# Altium schematic symbol library passive.SchLib: 14 symbols
Pins are listed as number, name and electrical type; pins without a type are passive.

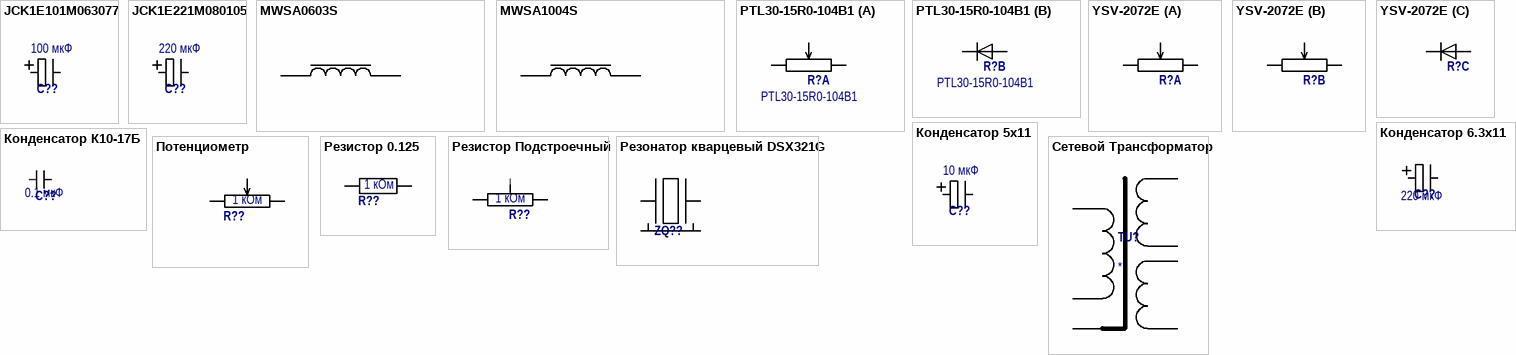
[diagram p0: symbols JCK1E101M063077 to Сетевой Трансформатор]

## JCK1E101M063077
designator C??  value 100 мкФ
Чип конденсатор; name: JCK1E101M063077; dopusk: ±10%; napr: 25 В; d_type: 35; k_type: K50; type: Конденсатор
footprint CAPAE6866X77M (Aluminum Electrolytic Capacitor, Body 6,60x6,60x7,70mm, IPC Low Density)
pins: 1, 2

## JCK1E221M080105
designator C??  value 220 мкФ
Чип конденсатор; name: JCK1E221M080105; dopusk: ±10%; napr: 25 В; d_type: 35; k_type: K50; type: Конденсатор
footprint CAPAE8482X105M (Aluminum Electrolytic Capacitor, Body 8.25x8.25x10.50mm, IPC Low Density)
pins: 1, 2

## MWSA0603S
designator L?
name: MWSA0603S-100MT; planar: 1; rotation_offset: 90
footprint INDC6650X04N (Chip Inductorr, 2-Leads, 0603S, IPC Medium Density)
pins: 1, 2

## MWSA1004S
designator L?
name: MWSA1004S-330MT; planar: 1; rotation_offset: 90
footprint INDC1040X04N (Chip Inductorr, 2-Leads, 1004S, IPC Medium Density)
pins: 1, 2

## PTL30-15R0-104B1
designator R?  name: PTL30-15R0-104B1
value: 100 кОм; type: Резистор
footprint PTL30
part A pins: 1, 2, 3
part B pins: B, E

## YSV-2072E
designator R?
value: 10 кОм; type: Резистор
footprint Q-4518
part A pins: 1, 2, 3
part B pins: 4, 5, 6
part C pins: 7, 8

## Конденсатор 5x11
designator C??  value 10 мкФ
Чип конденсатор; name: k_type-35-16 В-10 мкФ ±10%; dopusk: ±10%; napr: 16 В; d_type: 35; k_type: K50; type: Конденсатор
footprint CAP 5x11
pins: 1, 2

## Конденсатор 6.3x11
designator C??  value 220 мкФ
Чип конденсатор; name: k_type-35-16 В-220 мкФ ±10%; dopusk: ±10%; napr: 16 В; d_type: 35; k_type: K50; type: Конденсатор
footprint CAP 6.3x11
footprint CAP 6.3x11-R
pins: 1, 2

## Конденсатор К10-17Б
designator C??  value 0.1 мкФ
Чип конденсатор; name: К10-17Б-X7R-50 В-0.1 мкФ ±10%; dopusk: ±10%; napr: 50 В; d_type: X7R; type: Конденсатор
footprint CAP_JYM
footprint CAP 2.5x6.5x7.2 box
pins: 1, 2

## Потенциометр
designator R??  value 1 кОм
type: Резистор
footprint 16K1-B100K_WIRE
footprint RV09
footprint SL-45V1
footprint RK09
pins: 1, 2, 3

## Резистор 0.125
designator R??  value 1 кОм
name: С1-4 -1 кОм ±5%; dopusk: ±5%; type: Резистор
footprint RES C1-4 0.125
pins: 1, 2

## Резистор Подстроечный
designator R??, comment 1 кОм
type: Резистор; value: 1 кОм
footprint CA6
footprint 3296W-1 (Подстроечный резистор)
pins: 1, 2, 3

## Резонатор кварцевый DSX321G
designator ZQ??
DSX321G SMD Crystals; name: DSX321G; type: Резонаторы
footprint DSX321G (Footprint not found)
pins: 1, 2, 3, 4

## Сетевой Трансформатор
designator TU?
name: ТТП-15 2x12
footprint TTP15
pins: 1, 2, 3 +12V, 4 0V, 5 -12, 6 -13, 7 -14